# Altium footprint library Passives.PcbLib: 48 footprints (part 3 of 3)
Each footprint in its own frame and in the unit in brackets; x right, y up, seen from the top. Pads: shape width x height; smd on the part's side, far side on the other; paste and mask are expansions set on the pad; w line width, h text height; cw(c..) or ccw(c..) is an arc to the next point about the centre after c.
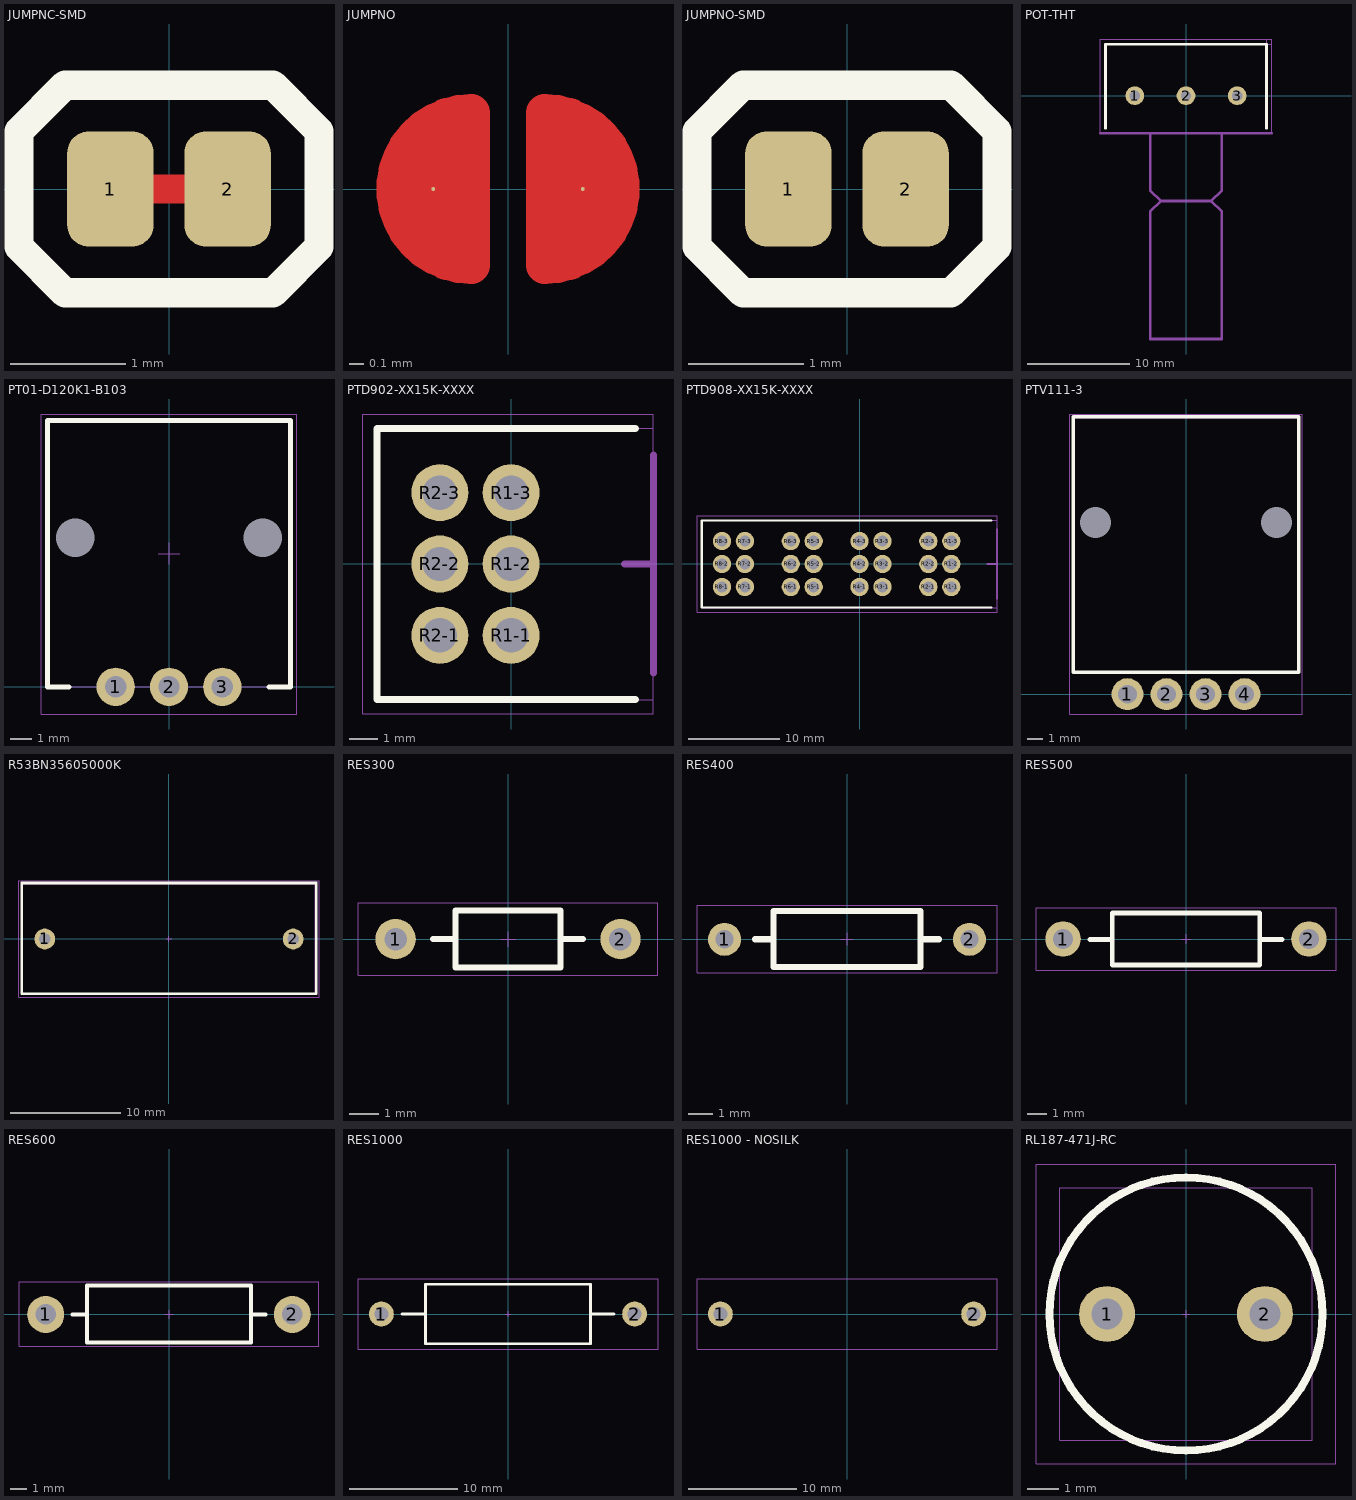
[diagram p2: the footprints below, top view; thin cyan lines are the x and y axes]

## JUMPNC-SMD [mm]
pads (2):
  rrect50% 0.75x1 smd mask+0: 1(-0.508,0) 2(0.508,0)
Top Layer:
  lines w0.254: -0.508,0 0.508,0
Top Overlay:
  lines w0.254: -1.3,-0.5 -0.9,-0.9 0.9,-0.9 1.3,-0.5 1.3,0.5 0.9,0.9 -0.9,0.9 -1.3,0.5 -1.3,-0.5

## JUMPNO [mil]
pads (2):
  round 1 smd paste-99999 mask+9.84: 1(-19.68,0) 2(19.68,0)
Top Layer:
  region: 9.69,20 11.65,20 15.52,19.23 19.16,17.72 22.43,15.54 25.22,12.75 27.41,9.47 28.92,5.83 29.68,1.97 29.68,-1.97 28.92,-5.83 27.41,-9.47 25.22,-12.75 22.43,-15.54 19.16,-17.72 15.52,-19.23 11.65,-20 9.69,-20
  region: -9.69,-20 -11.65,-20 -15.52,-19.23 -19.16,-17.72 -22.43,-15.54 -25.22,-12.75 -27.41,-9.47 -28.92,-5.83 -29.68,-1.97 -29.68,1.97 -28.92,5.83 -27.41,9.47 -25.22,12.75 -22.43,15.54 -19.16,17.72 -15.52,19.23 -11.65,20 -9.69,20
  lines w10: -9.69,-20 cw(c-9.69,0) -9.68,20 -9.69,-20 ; 9.68,-20 ccw(c9.69,0) 9.69,20 9.69,-20
Top Solder:
  region: -9.69,-29.84 -13.61,-29.84 -21.2,-27.81 -28.01,-23.88 -33.56,-18.32 -37.49,-11.52 -39.53,-3.93 -39.53,3.93 -37.49,11.52 -33.56,18.32 -28.01,23.88 -21.2,27.81 -13.61,29.84 -9.68,29.84 -9.69,29.84 9.69,29.84 13.61,29.84 21.2,27.81 28.01,23.88 33.56,18.32 37.49,11.52 39.53,3.93 39.53,-3.93 37.49,-11.52 33.56,-18.32 28.01,-23.88 21.2,-27.81 13.61,-29.84 9.69,-29.84

## JUMPNO-SMD [mm]
pads (2):
  rrect50% 0.75x1 smd mask+0: 1(-0.508,0) 2(0.508,0)
Top Overlay:
  lines w0.254: -1.3,-0.5 -0.9,-0.9 0.9,-0.9 1.3,-0.5 1.3,0.5 0.9,0.9 -0.9,0.9 -1.3,0.5 -1.3,-0.5

## POT-THT [mil]
pads (3):
  round 72 hole 40: 1(-196.85,0) 2(0,0) 3(196.85,0)
Top Overlay:
  lines w10: -310,-125 -310,198.11 310,198.11 310,-125
Top Courtyard:
  lines w1: -330,-145 330,-145 330,218.11 -330,218.11 -330,-145
Top 3D Body:
  lines w1: 310,218.11 310,198.11 330,198.11
  lines w10: -137.8,-145 -137.8,-364.61 -96.89,-405.51 ; 137.8,-145 137.8,-364.61 96.89,-405.51 ; -96.89,-405.51 96.89,-405.51 ; -96.89,-405.51 -137.8,-446.42 -137.8,-937.01 137.8,-937.01 137.8,-446.42 96.89,-405.51
Board Edge:
  lines w10: -330,-145 330,-145
3D body "User Library-Pot.step": height 792.83, standoff -177.17, extent -310,-808.11 310,198.11

## PT01-D120K1-B103 [mm]
pads (5):
  round 1.8 hole 1: 1(-2.5,0) 2(0,0) 3(2.5,0)
  rect 1x1 hole 1.8 square unplated: ""(-4.4,7) ""(4.4,7)
Top Overlay:
  lines w0.229: -4.7,0 -5.7,0 -5.7,12.5 5.7,12.5 5.7,0 4.7,0
Top Courtyard:
  lines w0.025: -6,-1.274 -6,12.8 6,12.8 6,-1.274 -6,-1.274
Top Assembly:
  lines w0.025: -0.5,6.25 0.5,6.25 ; 0,5.75 0,6.75 ; -5.7,0 5.7,0 5.7,12.5 -5.7,12.5 -5.7,0
3D body "CUI_DEVICES_PT01-D120K1-B103.step": height 20, standoff -4.75, extent -5.636,0 5.636,12.65

## PTD902-XX15K-XXXX [mm]
pads (6):
  round 2 hole 1.2 mask+0.07: R1-1(0,-2.5) R1-2(0,0) R1-3(0,2.5) R2-1(-2.5,-2.5) R2-2(-2.5,0) R2-3(-2.5,2.5)
Top Overlay:
  lines w0.254: 4.351,-4.75 -4.699,-4.75 -4.699,4.75 4.351,4.75
Top Courtyard:
  lines w0.025: -5.207,-5.258 4.986,-5.258 4.986,5.258 -5.207,5.258 -5.207,-5.258
Top Assembly:
  lines w0.025: -0.254,0 0.254,0 ; 0,-0.254 0,0.254 ; -4.699,-4.75 4.986,-4.75 4.986,4.75 -4.699,4.75 -4.699,-4.75
Board Edge:
  lines w0.254: 3.97,0 4.986,0 ; 4.986,-3.81 4.986,3.81
3D body "ptd902-xx15k-xxxx.stp": height 11.36, standoff -3.49, extent -4.65,-4.8 20,4.8

## PTD908-XX15K-XXXX [mm]
pads (24):
  round 2 hole 1.2 mask+0.07: R1-1(10,-2.5) R1-2(10,0) R1-3(10,2.5) R2-1(7.5,-2.5) R2-2(7.5,0) R2-3(7.5,2.5) R3-1(2.5,-2.5) R3-2(2.5,0) R3-3(2.5,2.5) R4-1(0,-2.5) R4-2(0,0) R4-3(0,2.5) R5-1(-5,-2.5) R5-2(-5,0) R5-3(-5,2.5) R6-1(-7.5,-2.5) R6-2(-7.5,0) R6-3(-7.5,2.5) R7-1(-12.5,-2.5) R7-2(-12.5,0) R7-3(-12.5,2.5) R8-1(-15,-2.5) R8-2(-15,0) R8-3(-15,2.5)
Top Overlay:
  lines w0.254: 14.351,-4.75 -17.214,-4.75 -17.214,4.75 14.351,4.75
Top Courtyard:
  lines w0.025: -17.722,-5.258 -17.722,5.258 14.986,5.258 14.986,-5.258 -17.722,-5.258
Top Assembly:
  lines w0.025: -0.254,0 0.254,0 ; 0,-0.254 0,0.254 ; -17.214,-4.75 -17.214,4.75 14.986,4.75 14.986,-4.75 -17.214,-4.75
Board Edge:
  lines w0.254: 13.97,0 14.986,0 ; 14.986,-3.81 14.986,3.81
3D body "ptd908-xx15k-xxxx.stp": height 11.36, standoff -3.49, extent -17.2,-4.8 30,4.8

## PTV111-3 [mm]
pads (6):
  round 2.04 hole 1.2: 1(-3.75,0) 2(-1.25,0) 3(1.25,0) 4(3.75,0)
  rect 1x1 hole 2 square unplated: ""(-5.8,11) ""(5.8,11)
Top Overlay:
  lines w0.229: -7.239,1.397 -7.239,17.78 7.239,17.78 7.239,1.397 -7.239,1.397
Top Courtyard:
  lines w0.025: -7.454,-1.274 7.454,-1.274 7.454,17.954 -7.454,17.954 -7.454,-1.274
Top Assembly:
  lines w0.025: -7.2,1.397 -7.2,17.7 7.2,17.7 7.2,1.397 -7.2,1.397
3D body "PTV111-3415A-B103--3DModel-STEP-1.STEP": height 22.5, standoff -3.8, extent -7.2,-0.2 7.2,17.7

## R53BN35605000K [mil]
pads (2):
  round 74 hole 40: 1(-442.91,0) 2(442.91,0)
Top Overlay:
  lines w10: -525,-195 525,-195 525,200 -525,200 -525,-195
Top Courtyard:
  lines w1: -535,-207.5 535,-207.5 535,207.5 -535,207.5 -535,-207.5
Top Assembly:
  lines w1: -10,0 10,0 ; 0,-10 0,10 ; -521.65,-196.85 521.65,-196.85 521.65,196.85 -521.65,196.85 -521.65,-196.85
3D body "R53BN35605000K.step": height 740.16, standoff -1062.99, extent -531.5,-203.86 531.5,201.85

## RES300 [mil]
pads (2):
  round 54 hole 30: 1(-150,0) 2(150,0)
Top Overlay:
  lines w7.87: -100,0 -70,0 ; 70,0 100,0 ; -70,-38.24 70,-38.24 70,38.24 -70,38.24 -70,-38.24
Top Courtyard:
  lines w1: -200,-48.24 -200,48.24 200,48.24 200,-48.24 -200,-48.24
Top Assembly:
  lines w1: -10,0 10,0 ; 0,-10 0,10
3D body "User Library-Resistencia-1.step": height 79.18, standoff -59.06, extent -160,-38.24 160,38.24

## RES400 [mil]
pads (2):
  round 54 hole 30: 1(-200,-0.5) 2(200,-0.5)
Top Overlay:
  lines w10: -150,-0.5 -120,-0.5 ; 120,-0.5 150,-0.5 ; -120,-45.5 120,-45.5 120,45.5 -120,45.5 -120,-45.5
Top Courtyard:
  lines w1: -245,-55.5 -245,55.5 245,55.5 245,-55.5 -245,-55.5
Top Assembly:
  lines w1: -10,0 10,0 ; 0,-10 0,10
3D body "RES400.step": height 95.81, standoff -119.69, extent -212,-45.5 212,45.5

## RES500 [mil]
pads (2):
  round 72 hole 40: 1(-250,0) 2(250,0)
Top Overlay:
  lines w10: -195,-0.87 -150,-0.87 ; 150,-0.87 195,-0.87 ; -150,-53.07 -150,53.07 150,53.07 150,-53.07 -150,-53.07
Top Courtyard:
  lines w1: -305,-63.07 -305,63.07 305,63.07 305,-63.07 -305,-63.07
Top Assembly:
  lines w1: -10,0 10,0 ; 0,-10 0,10
3D body "RES500.step": height 119.02, standoff -59.06, extent -255,-53.07 255,53.07

## RES600 [mil]
pads (2):
  round 90 hole 50: 1(-300,0) 2(300,0)
Top Overlay:
  lines w10: -235,0 -200,0 ; 200,0 235,0 ; -200,-67.8 200,-67.8 200,70 -200,70 -200,-67.8
Top Courtyard:
  lines w1: -365,-77.8 365,-77.8 365,80 -365,80 -365,-77.8
Top Assembly:
  lines w1: -10,0 10,0 ; 0,-10 0,10
3D body "SW3dPS-5083NW20K00J12AFX-2.STEP": height 141.35, standoff -102.55, extent -315.75,-67.8 315.75,70

## RES1000 [mil]
pads (2):
  round 90 hole 50: 1(-460,0) 2(460,0)
Top Overlay:
  lines w10: -385,0 -300,0 ; 300,0 385,0 ; -300,-108.5 300,-108.5 300,108.5 -300,108.5 -300,-108.5
Top Courtyard:
  lines w1: -545,-128.5 545,-128.5 545,128.5 -545,128.5 -545,-128.5
Top Assembly:
  lines w1: -10,0 10,0 ; 0,-10 0,10
3D body "YAG_FMP300_YAG.step": height 224.88, standoff -102.13, extent -477.01,-108.5 477.01,108.5

## RES1000 - NOSILK [mil]
pads (2):
  round 90 hole 50: 1(-460,0) 2(460,0)
Top Courtyard:
  lines w1: -545,-128.5 -545,128.5 545,128.5 545,-128.5 -545,-128.5
3D body "YAG_FMP300_YAG.step": height 224.88, standoff -102.13, extent -477.01,-108.5 477.01,108.5

## RL187-471J-RC [mm]
pads (2):
  round 1.8 hole 1: 1(-2.54,0) 2(2.54,0)
Top Overlay:
  circle w0.254: c0,0 r4.394
Top Courtyard:
  lines w0.025: -4.826,-4.826 4.826,-4.826 4.826,4.826 -4.826,4.826 -4.826,-4.826
Top Assembly:
  lines w0.025: -0.127,0 0.127,0 ; 0,-0.127 0,0.127 ; -4.064,-4.064 -4.064,4.064 4.064,4.064 4.064,-4.064 -4.064,-4.064
3D body "IND_BOURNS_RL187.step": height 11.22, standoff -4.37, extent -4.045,-4 3.962,4